# EAGLE library part XCR3064XL-VQ44 (library xilinx)
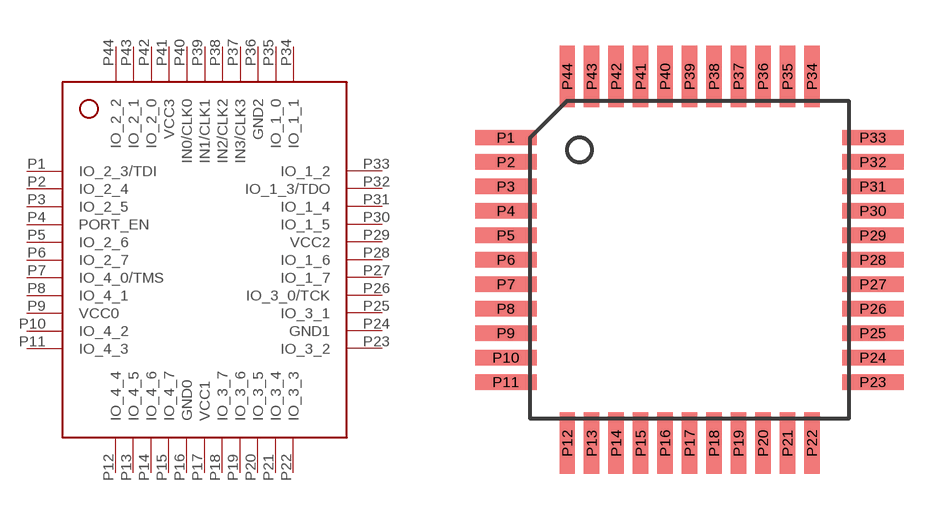
[diagram p2: symbol with the pads of VQ44; footprint VQ44]

Designator prefix -

## XCR3064XL-VQ44  [VQ44]
P1  IO_2_3/TDI  in
P2  IO_2_4
P3  IO_2_5
P4  PORT_EN  in
P5  IO_2_6
P6  IO_2_7
P7  IO_4_0/TMS  in
P8  IO_4_1
P9  VCC0  pwr
P10  IO_4_2
P11  IO_4_3
P12  IO_4_4
P13  IO_4_5
P14  IO_4_6
P15  IO_4_7
P16  GND0  pwr
P17  VCC1  pwr
P18  IO_3_7
P19  IO_3_6
P20  IO_3_5
P21  IO_3_4
P22  IO_3_3
P23  IO_3_2
P24  GND1  pwr
P25  IO_3_1
P26  IO_3_0/TCK  in
P27  IO_1_7
P28  IO_1_6
P29  VCC2  pwr
P30  IO_1_5
P31  IO_1_4
P32  IO_1_3/TDO  out
P33  IO_1_2
P34  IO_1_1
P35  IO_1_0
P36  GND2  pwr
P37  IN3/CLK3  in
P38  IN2/CLK2  in
P39  IN1/CLK1  in
P40  IN0/CLK0  in
P41  VCC3  pwr
P42  IO_2_0
P43  IO_2_1
P44  IO_2_2

## Footprint VQ44 (pad centres in mm)
smd 2 x 0.5: P1 -6,4; P2 -6,3.2; P3 -6,2.4; P4 -6,1.6; P5 -6,0.8; P6 -6,0; P7 -6,-0.8; P8 -6,-1.6; P9 -6,-2.4; P10 -6,-3.2; P11 -6,-4; P23 6,-4; P24 6,-3.2; P25 6,-2.4; P26 6,-1.6; P27 6,-0.8; P28 6,0; P29 6,0.8; P30 6,1.6; P31 6,2.4; P32 6,3.2; P33 6,4
smd 0.5 x 2: P12 -4,-6; P13 -3.2,-6; P14 -2.4,-6; P15 -1.6,-6; P16 -0.8,-6; P17 0,-6; P18 0.8,-6; P19 1.6,-6; P20 2.4,-6; P21 3.2,-6; P22 4,-6; P34 4,6; P35 3.2,6; P36 2.4,6; P37 1.6,6; P38 0.8,6; P39 0,6; P40 -0.8,6; P41 -1.6,6; P42 -2.4,6; P43 -3.2,6; P44 -4,6